# Altium integrated library C0603C104J4RAC7867.IntLib: 1 symbol
Pins are listed as number, name and electrical type; pins without a type are passive.

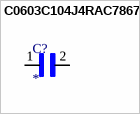
[diagram p0: symbol C0603C104J4RAC7867]

## C0603C104J4RAC7867
designator C?
Cap Ceramic 0.1uF 16V X7R 5% SMD 1.6 x 0.8 mm 125 C Paper T/R; MP: C0603C104J4RAC7867; MF: KEMET; Price: None; Availability: In Stock; Value: *; Check_prices: https://www.snapeda.com/parts/C0603C104J4RAC7867/KEMET/view-part/?ref=eda; Purchase-URL: https://pricing.snapeda.com/search/part/C0603C104J4RAC7867/?ref=eda; SnapEDA_Link: https://www.snapeda.com/parts/C0603C104J4RAC7867/KEMET/view-part/?ref=snap; Package: 0603 KEMET
footprint CAPC1608X90N
pins: 1, 2